# Altium footprint library Pcb_RCL.PcbLib: 2 footprints
Each footprint in its own frame and in the unit in brackets; x right, y up, seen from the top. Pads: shape width x height; smd on the part's side, far side on the other; paste and mask are expansions set on the pad; w line width, h text height; cw(c..) or ccw(c..) is an arc to the next point about the centre after c.
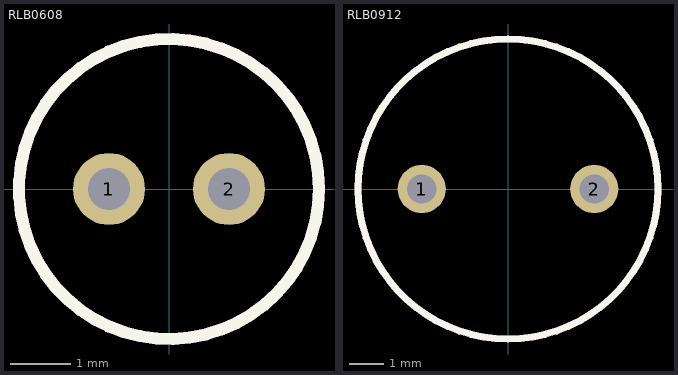
[diagram p0: the footprints below, top view; thin cyan lines are the x and y axes]

## RLB0608 [mm]
pads (2):
  round 1.2 hole 0.7: 1(-1,0) 2(1,0)
Top Overlay:
  circle w0.2: c0,0 r2.5
Top Assy (Mech13):
  circle w0.2: c0,0 r2.5
  text ".Designator" at -3.367,-1.6 h1

## RLB0912 [mm]
pads (2):
  round 1.4 hole 0.85: 1(-2.5,0) 2(2.5,0)
Top Overlay:
  circle w0.2: c0,0 r4.35
Top Assy (Mech13):
  circle w0.2: c0,0 r4.35
  text ".Designator" at -3.467,-2.7 h1